# Altium schematic symbol library Capasitors_other.SchLib: 8 symbols
Pins are listed as number, name and electrical type; pins without a type are passive.

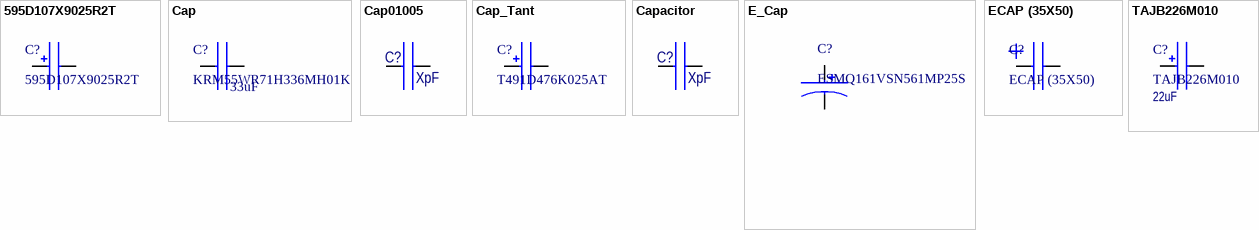
[diagram p0: symbols 595D107X9025R2T to TAJB226M010]

## 595D107X9025R2T
designator C?
100 µF Conformal Coated Tantalum Capacitors 25 V 2824 (7260 Metric) 200mOhm
footprint 595D107X9025R2T
pins: 1, 2

## Cap
designator C?, comment KRM55WR71H336MH01K  value 33uF
33uF X7R 50V 20%
footprint KRM55WR71H336MH01K
footprint Cap_1808
pins: 1, 2

## Cap01005
designator C?  value XpF
Distributor: Digi-Key
footprint CAP_01005
pins: 1, 2

## Cap_Tant
designator C?, comment T491D476K025AT
Tantalum Capacitors - Solid SMD 25V 47uF 2917 10% ESR=700 mOhms
footprint Tant_D
pins: 1, 2

## Capacitor
designator C?  value XpF
Distributor: Digi-Key
footprint Cap_0201
footprint CAP_1812
pins: 1, 2

## E_Cap
designator C?, comment ESMQ161VSN561MP25S
Aluminium Electrolytic Capacitors - Snap In 560uF 160 Volt
footprint Electrolytyk cap 22x25
pins: 1, 2

## ECAP (35X50)
designator C?
10000 мкФ, 80 В, 105°C, 20% snap in 35x50
footprint ECAP (35X50)
pins: 1 A "Positive", 2 K "Negative"

## TAJB226M010
designator C?  value 22uF
22uF 10V 2.4Ω@100kHz ±20% CASE-B-3528 Tantalum Capacitors
footprint CASE B
pins: 1, 2